# Altium integrated library Microchip PIC10.IntLib: 94 symbols (part 2 of 3)
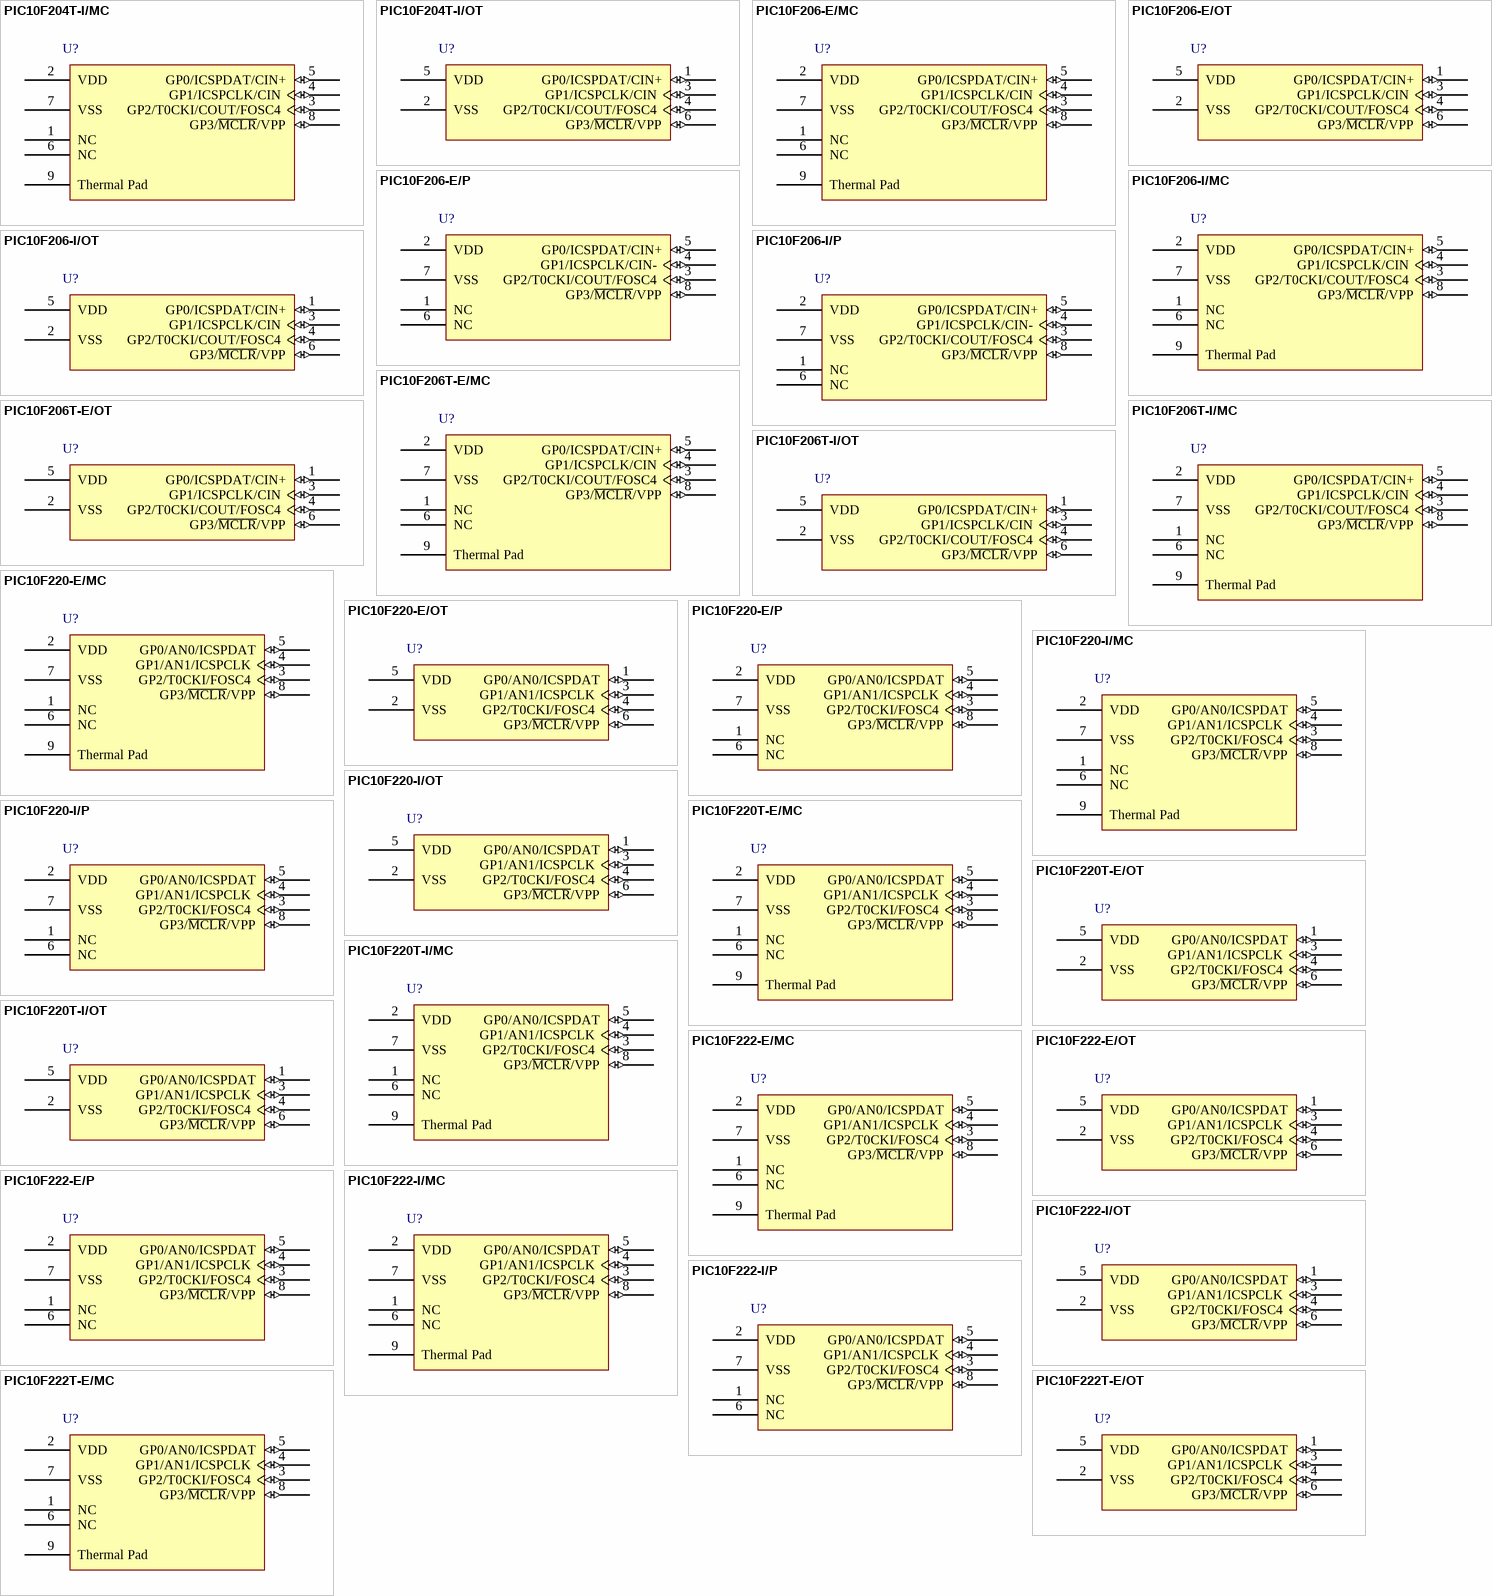
[diagram p3: symbols PIC10F204T-I/MC to PIC10F222T-E/OT]

## PIC10F220T-E/MC
designator U?
High-Performance Microcontroller with 8-bit A/D, 256 (x12-Bit words) Program Memory, 16 Bytes Data Memory, 8-Pin DFN, Extended Temperature, Tape and Reel; Manufacturer: Microchip; PartNumber: PIC10F220T-E/MC; DatasheetVersion: revE, Jun-2007; PackageVersion: C04-123C, 12/2012; PackageReference: DFN-MC8; PackageDescription: 8-Lead Plastic Dual Flat, 2 x 3 mm Body, 0.5 mm Pitch; ComponentLink1Description: Manufacturer URL; ComponentLink1URL: http://www.microchip.com/; ComponentLink2Description: Datasheet; ComponentLink2URL: http://ww1.microchip.com/downloads/en/DeviceDoc/41270E.pdf; ComponentLink3Description: Package Specification; ComponentLink3URL: http://www.microchip.com/stellent/groups/techpub_sg/documents/packagingspec/en012702.pdf
footprint MCHP-DFN-MC8_V (SON, 8-Leads, Body 3x2mm, Pitch 0.5mm, Thermal Pad 1.45x1.75mm)
pins: 1 NC, 2 VDD (power), 3 GP2/T0CKI/FOSC4 (io), 4 GP1/AN1/ICSPCLK (io), 5 GP0/AN0/ICSPDAT (io), 6 NC, 7 VSS (power), 8 GP3/~{MCLR}/VPP (io), 9 Thermal Pad

## PIC10F220T-E/OT
designator U?
High-Performance Microcontroller with 8-bit A/D, 256 (x12-Bit words) Program Memory, 16 Bytes Data Memory, 6-Pin SOT-23, Extended Temperature, Tape and Reel; Manufacturer: Microchip; PartNumber: PIC10F220T-E/OT; DatasheetVersion: revE, Jun-2007; PackageVersion: C04-028B, 12/2012; PackageReference: SOT-23-OT6; PackageDescription: 6-Lead Plastic Small Outline Transistor, 2.9 x 1.55 mm Body, 0.95 mm Pitch; ComponentLink1Description: Manufacturer URL; ComponentLink1URL: http://www.microchip.com/; ComponentLink2Description: Datasheet; ComponentLink2URL: http://ww1.microchip.com/downloads/en/DeviceDoc/41270E.pdf; ComponentLink3Description: Package Specification; ComponentLink3URL: http://www.microchip.com/stellent/groups/techpub_sg/documents/packagingspec/en012702.pdf
footprint MCHP-SOT-23-OT6_N (SOT23, 6-Leads, Body 2.9x1.55mm, Pitch 0.95mm, IPC Medium Density)
footprint MCHP-SOT-23-OT6_L (SOT23, 6-Leads, Body 2.9x1.55mm, Pitch 0.95mm, IPC High Density)
footprint MCHP-SOT-23-OT6_M (SOT23, 6-Leads, Body 2.9x1.55mm, Pitch 0.95mm, IPC Low Density)
pins: 1 GP0/AN0/ICSPDAT (io), 2 VSS (power), 3 GP1/AN1/ICSPCLK (io), 4 GP2/T0CKI/FOSC4 (io), 5 VDD (power), 6 GP3/~{MCLR}/VPP (io)

## PIC10F220T-I/MC
designator U?
High-Performance Microcontroller with 8-bit A/D, 256 (x12-Bit words) Program Memory, 16 Bytes Data Memory, 8-Pin DFN, Industrial Temperature, Tape and Reel; Manufacturer: Microchip; PartNumber: PIC10F220T-I/MC; DatasheetVersion: revE, Jun-2007; PackageVersion: C04-123C, 12/2012; PackageReference: DFN-MC8; PackageDescription: 8-Lead Plastic Dual Flat, 2 x 3 mm Body, 0.5 mm Pitch; ComponentLink1Description: Manufacturer URL; ComponentLink1URL: http://www.microchip.com/; ComponentLink2Description: Datasheet; ComponentLink2URL: http://ww1.microchip.com/downloads/en/DeviceDoc/41270E.pdf; ComponentLink3Description: Package Specification; ComponentLink3URL: http://www.microchip.com/stellent/groups/techpub_sg/documents/packagingspec/en012702.pdf
footprint MCHP-DFN-MC8_V (SON, 8-Leads, Body 3x2mm, Pitch 0.5mm, Thermal Pad 1.45x1.75mm)
pins: 1 NC, 2 VDD (power), 3 GP2/T0CKI/FOSC4 (io), 4 GP1/AN1/ICSPCLK (io), 5 GP0/AN0/ICSPDAT (io), 6 NC, 7 VSS (power), 8 GP3/~{MCLR}/VPP (io), 9 Thermal Pad

## PIC10F220T-I/OT
designator U?
High-Performance Microcontroller with 8-bit A/D, 256 (x12-Bit words) Program Memory, 16 Bytes Data Memory, 6-Pin SOT-23, Industrial Temperature, Tape and Reel; Manufacturer: Microchip; PartNumber: PIC10F220T-I/OT; DatasheetVersion: revE, Jun-2007; PackageVersion: C04-028B, 12/2012; PackageReference: SOT-23-OT6; PackageDescription: 6-Lead Plastic Small Outline Transistor, 2.9 x 1.55 mm Body, 0.95 mm Pitch; ComponentLink1Description: Manufacturer URL; ComponentLink1URL: http://www.microchip.com/; ComponentLink2Description: Datasheet; ComponentLink2URL: http://ww1.microchip.com/downloads/en/DeviceDoc/41270E.pdf; ComponentLink3Description: Package Specification; ComponentLink3URL: http://www.microchip.com/stellent/groups/techpub_sg/documents/packagingspec/en012702.pdf
footprint MCHP-SOT-23-OT6_N (SOT23, 6-Leads, Body 2.9x1.55mm, Pitch 0.95mm, IPC Medium Density)
footprint MCHP-SOT-23-OT6_L (SOT23, 6-Leads, Body 2.9x1.55mm, Pitch 0.95mm, IPC High Density)
footprint MCHP-SOT-23-OT6_M (SOT23, 6-Leads, Body 2.9x1.55mm, Pitch 0.95mm, IPC Low Density)
pins: 1 GP0/AN0/ICSPDAT (io), 2 VSS (power), 3 GP1/AN1/ICSPCLK (io), 4 GP2/T0CKI/FOSC4 (io), 5 VDD (power), 6 GP3/~{MCLR}/VPP (io)

## PIC10F222-E/MC
designator U?
High-Performance Microcontroller with 8-bit A/D, 512 (x12-Bit words) Program Memory, 23 Bytes Data Memory, 8-Pin DFN, Extended Temperature; Manufacturer: Microchip; PartNumber: PIC10F222-E/MC; DatasheetVersion: revE, Jun-2007; PackageVersion: C04-123C, 12/2012; PackageReference: DFN-MC8; PackageDescription: 8-Lead Plastic Dual Flat, 2 x 3 mm Body, 0.5 mm Pitch; ComponentLink1Description: Manufacturer URL; ComponentLink1URL: http://www.microchip.com/; ComponentLink2Description: Datasheet; ComponentLink2URL: http://ww1.microchip.com/downloads/en/DeviceDoc/41270E.pdf; ComponentLink3Description: Package Specification; ComponentLink3URL: http://www.microchip.com/stellent/groups/techpub_sg/documents/packagingspec/en012702.pdf
footprint MCHP-DFN-MC8_V (SON, 8-Leads, Body 3x2mm, Pitch 0.5mm, Thermal Pad 1.45x1.75mm)
pins: 1 NC, 2 VDD (power), 3 GP2/T0CKI/FOSC4 (io), 4 GP1/AN1/ICSPCLK (io), 5 GP0/AN0/ICSPDAT (io), 6 NC, 7 VSS (power), 8 GP3/~{MCLR}/VPP (io), 9 Thermal Pad

## PIC10F222-E/OT
designator U?
High-Performance Microcontroller with 8-bit A/D, 512 (x12-Bit words) Program Memory, 23 Bytes Data Memory, 6-Pin SOT-23, Extended Temperature; Manufacturer: Microchip; PartNumber: PIC10F222-E/OT; DatasheetVersion: revE, Jun-2007; PackageVersion: C04-028B, 12/2012; PackageReference: SOT-23-OT6; PackageDescription: 6-Lead Plastic Small Outline Transistor, 2.9 x 1.55 mm Body, 0.95 mm Pitch; ComponentLink1Description: Manufacturer URL; ComponentLink1URL: http://www.microchip.com/; ComponentLink2Description: Datasheet; ComponentLink2URL: http://ww1.microchip.com/downloads/en/DeviceDoc/41270E.pdf; ComponentLink3Description: Package Specification; ComponentLink3URL: http://www.microchip.com/stellent/groups/techpub_sg/documents/packagingspec/en012702.pdf
footprint MCHP-SOT-23-OT6_N (SOT23, 6-Leads, Body 2.9x1.55mm, Pitch 0.95mm, IPC Medium Density)
footprint MCHP-SOT-23-OT6_L (SOT23, 6-Leads, Body 2.9x1.55mm, Pitch 0.95mm, IPC High Density)
footprint MCHP-SOT-23-OT6_M (SOT23, 6-Leads, Body 2.9x1.55mm, Pitch 0.95mm, IPC Low Density)
pins: 1 GP0/AN0/ICSPDAT (io), 2 VSS (power), 3 GP1/AN1/ICSPCLK (io), 4 GP2/T0CKI/FOSC4 (io), 5 VDD (power), 6 GP3/~{MCLR}/VPP (io)

## PIC10F222-E/P
designator U?
High-Performance Microcontroller with 8-bit A/D, 512 (x12-Bit words) Program Memory, 23 Bytes Data Memory, 8-Pin PDIP, Extended Temperature; Manufacturer: Microchip; PartNumber: PIC10F222-E/P; DatasheetVersion: revE, Jun-2007; PackageVersion: revBB, Aug-2009; PackageReference: PDIP300-P8; PackageDescription: 8-Lead Plastic Dual In-Line (P) - 300 mil Body [PDIP]; Code_JEDEC: MS-001; ComponentLink1Description: Manufacturer URL; ComponentLink1URL: http://www.microchip.com/; ComponentLink2Description: Datasheet; ComponentLink2URL: http://ww1.microchip.com/downloads/en/DeviceDoc/41270E.pdf; ComponentLink3Description: Package Specification; ComponentLink3URL: http://www.microchip.com/stellent/groups/techpub_sg/documents/packagingspec/en012702.pdf
footprint PDIP300-P8 (DIP, 8-Leads, Row Spacing 7.62mm, Pitch 2.54mm, Body 9.5x6.6mm)
pins: 1 NC, 2 VDD (power), 3 GP2/T0CKI/FOSC4 (io), 4 GP1/AN1/ICSPCLK (io), 5 GP0/AN0/ICSPDAT (io), 6 NC, 7 VSS (power), 8 GP3/~{MCLR}/VPP (io)

## PIC10F222-I/MC
designator U?
High-Performance Microcontroller with 8-bit A/D, 512 (x12-Bit words) Program Memory, 23 Bytes Data Memory, 8-Pin DFN, Industrial Temperature; Manufacturer: Microchip; PartNumber: PIC10F222-I/MC; DatasheetVersion: revE, Jun-2007; PackageVersion: C04-123C, 12/2012; PackageReference: DFN-MC8; PackageDescription: 8-Lead Plastic Dual Flat, 2 x 3 mm Body, 0.5 mm Pitch; ComponentLink1Description: Manufacturer URL; ComponentLink1URL: http://www.microchip.com/; ComponentLink2Description: Datasheet; ComponentLink2URL: http://ww1.microchip.com/downloads/en/DeviceDoc/41270E.pdf; ComponentLink3Description: Package Specification; ComponentLink3URL: http://www.microchip.com/stellent/groups/techpub_sg/documents/packagingspec/en012702.pdf
footprint MCHP-DFN-MC8_V (SON, 8-Leads, Body 3x2mm, Pitch 0.5mm, Thermal Pad 1.45x1.75mm)
pins: 1 NC, 2 VDD (power), 3 GP2/T0CKI/FOSC4 (io), 4 GP1/AN1/ICSPCLK (io), 5 GP0/AN0/ICSPDAT (io), 6 NC, 7 VSS (power), 8 GP3/~{MCLR}/VPP (io), 9 Thermal Pad

## PIC10F222-I/OT
designator U?
High-Performance Microcontroller with 8-bit A/D, 512 (x12-Bit words) Program Memory, 23 Bytes Data Memory, 6-Pin SOT-23, Industrial Temperature; Manufacturer: Microchip; PartNumber: PIC10F222-I/OT; DatasheetVersion: revE, Jun-2007; PackageVersion: C04-028B, 12/2012; PackageReference: SOT-23-OT6; PackageDescription: 6-Lead Plastic Small Outline Transistor, 2.9 x 1.55 mm Body, 0.95 mm Pitch; ComponentLink1Description: Manufacturer URL; ComponentLink1URL: http://www.microchip.com/; ComponentLink2Description: Datasheet; ComponentLink2URL: http://ww1.microchip.com/downloads/en/DeviceDoc/41270E.pdf; ComponentLink3Description: Package Specification; ComponentLink3URL: http://www.microchip.com/stellent/groups/techpub_sg/documents/packagingspec/en012702.pdf
footprint MCHP-SOT-23-OT6_N (SOT23, 6-Leads, Body 2.9x1.55mm, Pitch 0.95mm, IPC Medium Density)
footprint MCHP-SOT-23-OT6_L (SOT23, 6-Leads, Body 2.9x1.55mm, Pitch 0.95mm, IPC High Density)
footprint MCHP-SOT-23-OT6_M (SOT23, 6-Leads, Body 2.9x1.55mm, Pitch 0.95mm, IPC Low Density)
pins: 1 GP0/AN0/ICSPDAT (io), 2 VSS (power), 3 GP1/AN1/ICSPCLK (io), 4 GP2/T0CKI/FOSC4 (io), 5 VDD (power), 6 GP3/~{MCLR}/VPP (io)

## PIC10F222-I/P
designator U?
High-Performance Microcontroller with 8-bit A/D, 512 (x12-Bit words) Program Memory, 23 Bytes Data Memory, 8-Pin PDIP, Industrial Temperature; Manufacturer: Microchip; PartNumber: PIC10F222-I/P; DatasheetVersion: revE, Jun-2007; PackageVersion: revBB, Aug-2009; PackageReference: PDIP300-P8; PackageDescription: 8-Lead Plastic Dual In-Line (P) - 300 mil Body [PDIP]; Code_JEDEC: MS-001; ComponentLink1Description: Manufacturer URL; ComponentLink1URL: http://www.microchip.com/; ComponentLink2Description: Datasheet; ComponentLink2URL: http://ww1.microchip.com/downloads/en/DeviceDoc/41270E.pdf; ComponentLink3Description: Package Specification; ComponentLink3URL: http://www.microchip.com/stellent/groups/techpub_sg/documents/packagingspec/en012702.pdf
footprint PDIP300-P8 (DIP, 8-Leads, Row Spacing 7.62mm, Pitch 2.54mm, Body 9.5x6.6mm)
pins: 1 NC, 2 VDD (power), 3 GP2/T0CKI/FOSC4 (io), 4 GP1/AN1/ICSPCLK (io), 5 GP0/AN0/ICSPDAT (io), 6 NC, 7 VSS (power), 8 GP3/~{MCLR}/VPP (io)

## PIC10F222T-E/MC
designator U?
High-Performance Microcontroller with 8-bit A/D, 512 (x12-Bit words) Program Memory, 23 Bytes Data Memory, 8-Pin DFN, Extended Temperature, Tape and Reel; Manufacturer: Microchip; PartNumber: PIC10F222T-E/MC; DatasheetVersion: revE, Jun-2007; PackageVersion: C04-123C, 12/2012; PackageReference: DFN-MC8; PackageDescription: 8-Lead Plastic Dual Flat, 2 x 3 mm Body, 0.5 mm Pitch; ComponentLink1Description: Manufacturer URL; ComponentLink1URL: http://www.microchip.com/; ComponentLink2Description: Datasheet; ComponentLink2URL: http://ww1.microchip.com/downloads/en/DeviceDoc/41270E.pdf; ComponentLink3Description: Package Specification; ComponentLink3URL: http://www.microchip.com/stellent/groups/techpub_sg/documents/packagingspec/en012702.pdf
footprint MCHP-DFN-MC8_V (SON, 8-Leads, Body 3x2mm, Pitch 0.5mm, Thermal Pad 1.45x1.75mm)
pins: 1 NC, 2 VDD (power), 3 GP2/T0CKI/FOSC4 (io), 4 GP1/AN1/ICSPCLK (io), 5 GP0/AN0/ICSPDAT (io), 6 NC, 7 VSS (power), 8 GP3/~{MCLR}/VPP (io), 9 Thermal Pad

## PIC10F222T-E/OT
designator U?
High-Performance Microcontroller with 8-bit A/D, 512 (x12-Bit words) Program Memory, 23 Bytes Data Memory, 6-Pin SOT-23, Extended Temperature, Tape and Reel; Manufacturer: Microchip; PartNumber: PIC10F222T-E/OT; DatasheetVersion: revE, Jun-2007; PackageVersion: C04-028B, 12/2012; PackageReference: SOT-23-OT6; PackageDescription: 6-Lead Plastic Small Outline Transistor, 2.9 x 1.55 mm Body, 0.95 mm Pitch; ComponentLink1Description: Manufacturer URL; ComponentLink1URL: http://www.microchip.com/; ComponentLink2Description: Datasheet; ComponentLink2URL: http://ww1.microchip.com/downloads/en/DeviceDoc/41270E.pdf; ComponentLink3Description: Package Specification; ComponentLink3URL: http://www.microchip.com/stellent/groups/techpub_sg/documents/packagingspec/en012702.pdf
footprint MCHP-SOT-23-OT6_N (SOT23, 6-Leads, Body 2.9x1.55mm, Pitch 0.95mm, IPC Medium Density)
footprint MCHP-SOT-23-OT6_L (SOT23, 6-Leads, Body 2.9x1.55mm, Pitch 0.95mm, IPC High Density)
footprint MCHP-SOT-23-OT6_M (SOT23, 6-Leads, Body 2.9x1.55mm, Pitch 0.95mm, IPC Low Density)
pins: 1 GP0/AN0/ICSPDAT (io), 2 VSS (power), 3 GP1/AN1/ICSPCLK (io), 4 GP2/T0CKI/FOSC4 (io), 5 VDD (power), 6 GP3/~{MCLR}/VPP (io)

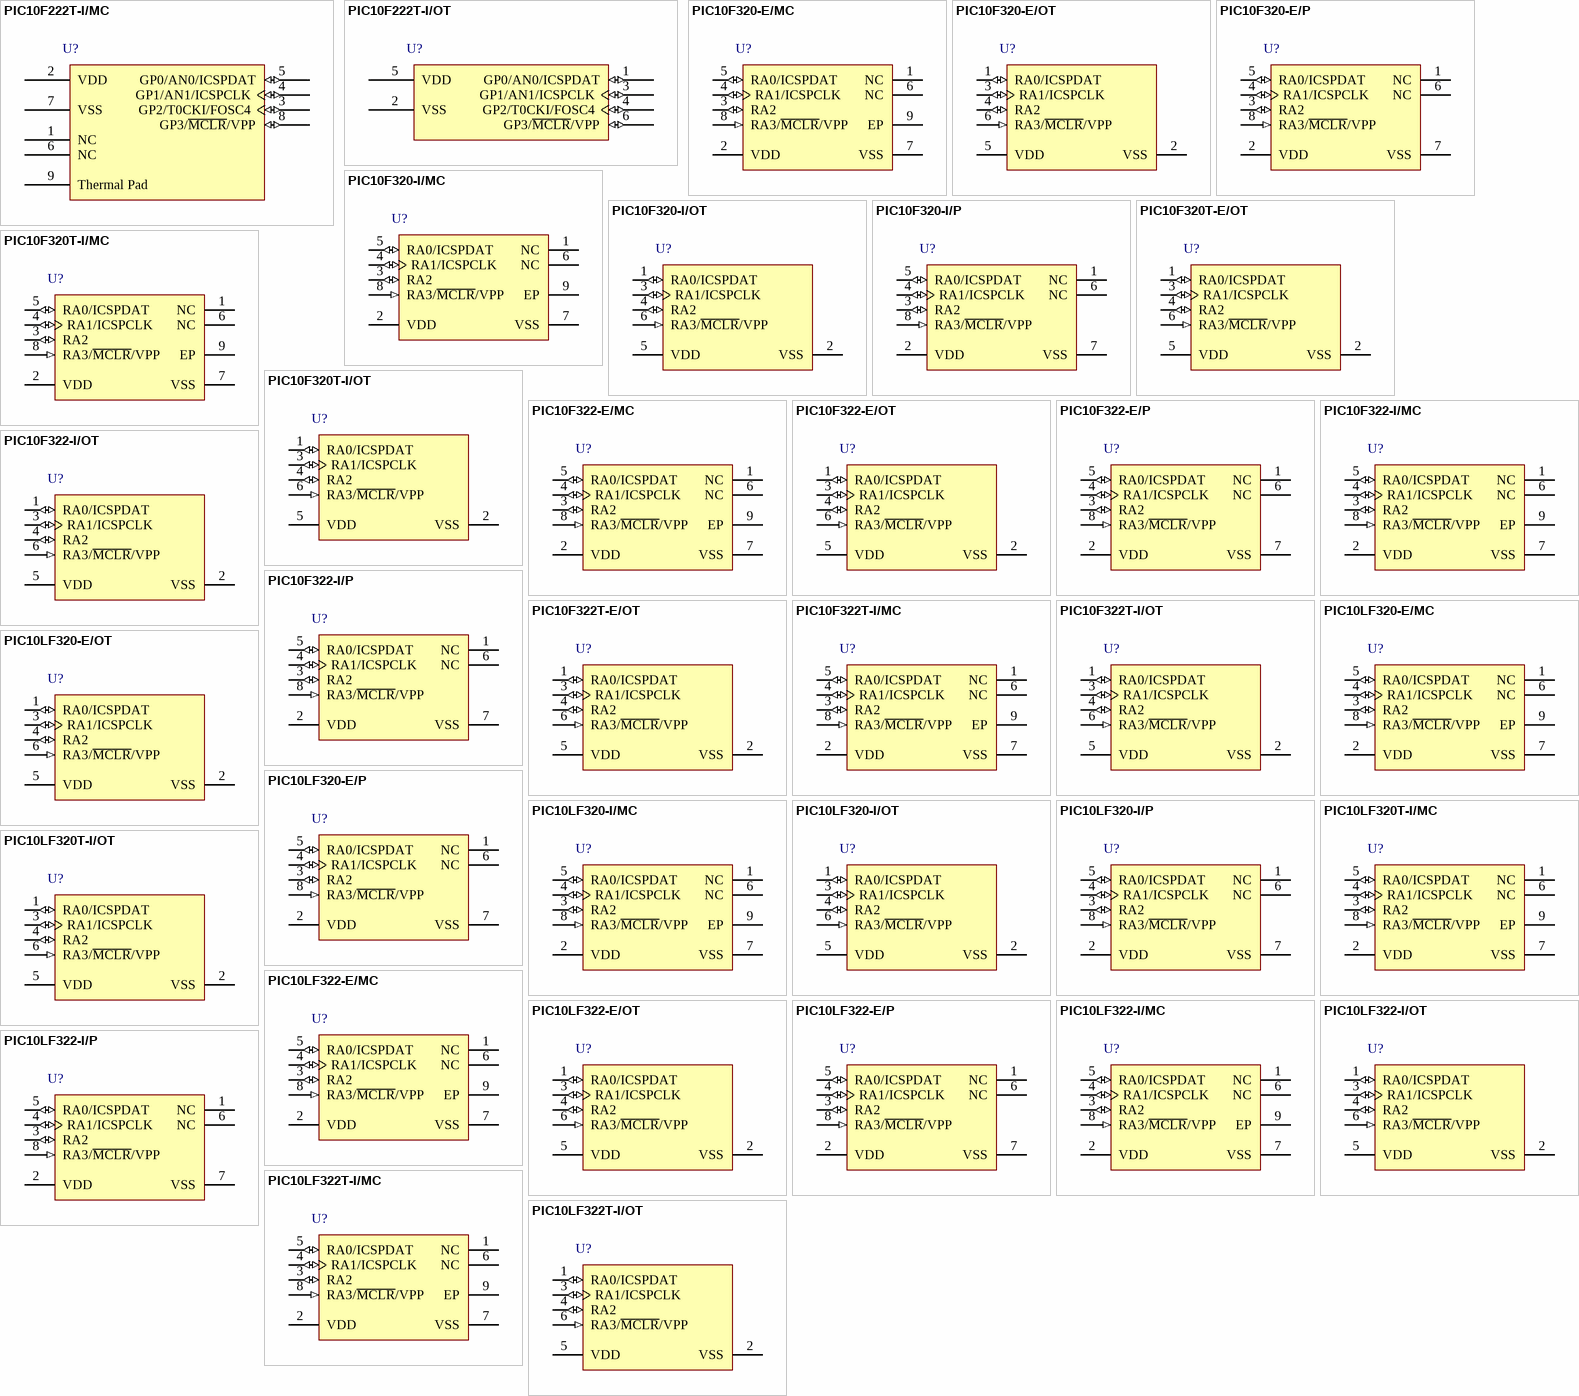
[diagram p2: symbols PIC10F222T-I/MC to PIC10LF322T-I/OT]

## PIC10F222T-I/MC
designator U?
High-Performance Microcontroller with 8-bit A/D, 512 (x12-Bit words) Program Memory, 23 Bytes Data Memory, 8-Pin DFN, Industrial Temperature, Tape and Reel; Manufacturer: Microchip; PartNumber: PIC10F222T-I/MC; DatasheetVersion: revE, Jun-2007; PackageVersion: C04-123C, 12/2012; PackageReference: DFN-MC8; PackageDescription: 8-Lead Plastic Dual Flat, 2 x 3 mm Body, 0.5 mm Pitch; ComponentLink1Description: Manufacturer URL; ComponentLink1URL: http://www.microchip.com/; ComponentLink2Description: Datasheet; ComponentLink2URL: http://ww1.microchip.com/downloads/en/DeviceDoc/41270E.pdf; ComponentLink3Description: Package Specification; ComponentLink3URL: http://www.microchip.com/stellent/groups/techpub_sg/documents/packagingspec/en012702.pdf
footprint MCHP-DFN-MC8_V (SON, 8-Leads, Body 3x2mm, Pitch 0.5mm, Thermal Pad 1.45x1.75mm)
pins: 1 NC, 2 VDD (power), 3 GP2/T0CKI/FOSC4 (io), 4 GP1/AN1/ICSPCLK (io), 5 GP0/AN0/ICSPDAT (io), 6 NC, 7 VSS (power), 8 GP3/~{MCLR}/VPP (io), 9 Thermal Pad

## PIC10F222T-I/OT
designator U?
High-Performance Microcontroller with 8-bit A/D, 512 (x12-Bit words) Program Memory, 23 Bytes Data Memory, 6-Pin SOT-23, Industrial Temperature, Tape and Reel; Manufacturer: Microchip; PartNumber: PIC10F222T-I/OT; DatasheetVersion: revE, Jun-2007; PackageVersion: C04-028B, 12/2012; PackageReference: SOT-23-OT6; PackageDescription: 6-Lead Plastic Small Outline Transistor, 2.9 x 1.55 mm Body, 0.95 mm Pitch; ComponentLink1Description: Manufacturer URL; ComponentLink1URL: http://www.microchip.com/; ComponentLink2Description: Datasheet; ComponentLink2URL: http://ww1.microchip.com/downloads/en/DeviceDoc/41270E.pdf; ComponentLink3Description: Package Specification; ComponentLink3URL: http://www.microchip.com/stellent/groups/techpub_sg/documents/packagingspec/en012702.pdf
footprint MCHP-SOT-23-OT6_N (SOT23, 6-Leads, Body 2.9x1.55mm, Pitch 0.95mm, IPC Medium Density)
footprint MCHP-SOT-23-OT6_L (SOT23, 6-Leads, Body 2.9x1.55mm, Pitch 0.95mm, IPC High Density)
footprint MCHP-SOT-23-OT6_M (SOT23, 6-Leads, Body 2.9x1.55mm, Pitch 0.95mm, IPC Low Density)
pins: 1 GP0/AN0/ICSPDAT (io), 2 VSS (power), 3 GP1/AN1/ICSPCLK (io), 4 GP2/T0CKI/FOSC4 (io), 5 VDD (power), 6 GP3/~{MCLR}/VPP (io)

## PIC10F320-E/MC
designator U?
High-Performance, Flash Microcontroller, 16 MHz, 3 I/O, -40 to 125 degC, 8-pin DFN (MC8), Tube; Manufacturer: Microchip; PartNumber: PIC10F320-E/MC; # of A/D Channels: 3; Digital Communication: 0 -UART; Internal Oscillator: 16 MHz, 31 kHz; Max. CPU Speed MHz: 16; Operation Voltage Range: 2.3V - 5.5V; Program Memory KBytes: 0.448; Program Memory KWords: 0.25; RAM: 64; Timers: 2 - 8-bit; DatasheetVersion: Rev. A; PackageVersion: C04-123C, 12/2012; PackageReference: DFN-MC8; PackageDescription: 8-Lead Plastic Dual Flat, 2 x 3 mm Body, 0.5 mm Pitch; Supplier 1: Digi-Key; Supplier Part Number 1: PIC10F320-E/MC-ND; Supplier 2: Mouser; Supplier Part Number 2: 579-PIC10F320-E/MC; I/O Pins: 3; Memory Type: Flash; Packing: TUBE; RoHS: TRUE; Mounting Technology: Surface Mount; ComponentLink1Description: Manufacturer URL; ComponentLink1URL: http://www.microchip.com/; ComponentLink2Description: Datasheet; ComponentLink2URL: http://ww1.microchip.com/downloads/en/DeviceDoc/41585A.pdf; ComponentLink3Description: Package Specification; ComponentLink3URL: http://www.microchip.com/stellent/groups/techpub_sg/documents/packagingspec/en012702.pdf; ComponentLink4Description: URL Link1; ComponentLink4URL: Product URL:http://www.microchip.com/datasheet/PIC10F320
footprint MCHP-DFN-MC8_V (SON, 8-Leads, Body 3x2mm, Pitch 0.5mm, Thermal Pad 1.45x1.75mm)
pins: 1 NC, 2 VDD (power) "Positive supply.", 3 RA2 (io), 4 RA1/ICSPCLK (io), 5 RA0/ICSPDAT (io), 6 NC, 7 VSS (power) "Ground reference.", 8 RA3/~{MCLR}/VPP (in), 9 EP

## PIC10F320-E/OT
designator U?
High-Performance, Flash Microcontroller, 16 MHz, 3 I/O, -40 to 125 degC, 6-pin SOT-23 (OT6), Bag; Manufacturer: Microchip; PartNumber: PIC10F320-E/OT; # of A/D Channels: 3; Digital Communication: 0 -UART; Internal Oscillator: 16 MHz, 31 kHz; Max. CPU Speed MHz: 16; Operation Voltage Range: 2.3V - 5.5V; Program Memory KBytes: 0.448; Program Memory KWords: 0.25; RAM: 64; Timers: 2 - 8-bit; DatasheetVersion: Rev. A; PackageVersion: C04-028B, 12/2012; PackageReference: SOT-23-OT6; PackageDescription: 6-Lead Plastic Small Outline Transistor, 2.9 x 1.55 mm Body, 0.95 mm Pitch; Supplier 1: Digi-Key; Supplier Part Number 1: PIC10F320-E/OT-ND; Supplier 2: Newark; Supplier Part Number 2: 41T4329; Supplier 3: Mouser; Supplier Part Number 3: 579-PIC10F320-E/OT; I/O Pins: 3; Memory Type: Flash; Packing: BAG; RoHS: TRUE; Mounting Technology: Surface Mount; ComponentLink1Description: Manufacturer URL; ComponentLink1URL: http://www.microchip.com/; ComponentLink2Description: Datasheet; ComponentLink2URL: http://ww1.microchip.com/downloads/en/DeviceDoc/41585A.pdf; ComponentLink3Description: Package Specification; ComponentLink3URL: http://www.microchip.com/stellent/groups/techpub_sg/documents/packagingspec/en012702.pdf; ComponentLink4Description: URL Link1; ComponentLink4URL: Product URL:http://www.microchip.com/datasheet/PIC10F320
footprint MCHP-SOT-23-OT6_N (SOT23, 6-Leads, Body 2.9x1.55mm, Pitch 0.95mm, IPC Medium Density)
footprint MCHP-SOT-23-OT6_L (SOT23, 6-Leads, Body 2.9x1.55mm, Pitch 0.95mm, IPC High Density)
footprint MCHP-SOT-23-OT6_M (SOT23, 6-Leads, Body 2.9x1.55mm, Pitch 0.95mm, IPC Low Density)
pins: 1 RA0/ICSPDAT (io), 2 VSS (power) "Ground reference.", 3 RA1/ICSPCLK (io), 4 RA2 (io), 5 VDD (power) "Positive supply.", 6 RA3/~{MCLR}/VPP (in)

## PIC10F320-E/P
designator U?
High-Performance, Flash Microcontroller, 16 MHz, 3 I/O, -40 to 125 degC, 8-pin PDIP (P8), Tube; Manufacturer: Microchip; PartNumber: PIC10F320-E/P; # of A/D Channels: 3; Digital Communication: 0 -UART; Internal Oscillator: 16 MHz, 31 kHz; Max. CPU Speed MHz: 16; Operation Voltage Range: 2.3V - 5.5V; Program Memory KBytes: 0.448; Program Memory KWords: 0.25; RAM: 64; Timers: 2 - 8-bit; DatasheetVersion: Rev. A; PackageVersion: C04-018B, 12/2012; PackageReference: PDIP-P8; PackageDescription: 8-Lead Plastic Dual In-Line, Row Spacing 7.62 mm, 9.5 x 6.6 mm Body, 2.54 mm Pitch; Supplier 1: Digi-Key; Supplier Part Number 1: PIC10F320-E/P-ND; Supplier 2: Newark; Supplier Part Number 2: 41T4330; Supplier 3: Mouser; Supplier Part Number 3: 579-PIC10F320-E/P; I/O Pins: 3; Memory Type: Flash; Packing: TUBE; RoHS: TRUE; Mounting Technology: Through Hole; ComponentLink1Description: Manufacturer URL; ComponentLink1URL: http://www.microchip.com/; ComponentLink2Description: Datasheet; ComponentLink2URL: http://ww1.microchip.com/downloads/en/DeviceDoc/41585A.pdf; ComponentLink3Description: Package Specification; ComponentLink3URL: http://www.microchip.com/stellent/groups/techpub_sg/documents/packagingspec/en012702.pdf; ComponentLink4Description: URL Link1; ComponentLink4URL: Product URL:http://www.microchip.com/datasheet/PIC10F320
footprint MCHP-PDIP-P8 (PDIP, 8-Leads, Body 9.5x6.604mm, Pitch 2.54mm)
pins: 1 NC, 2 VDD (power) "Positive supply.", 3 RA2 (io), 4 RA1/ICSPCLK (io), 5 RA0/ICSPDAT (io), 6 NC, 7 VSS (power) "Ground reference.", 8 RA3/~{MCLR}/VPP (in)

## PIC10F320-I/MC
designator U?
High-Performance, Flash Microcontroller, 16 MHz, 3 I/O, -40 to 85 degC, 8-pin DFN (MC8), Tube; Manufacturer: Microchip; PartNumber: PIC10F320-I/MC; # of A/D Channels: 3; Digital Communication: 0 -UART; Internal Oscillator: 16 MHz, 31 kHz; Max. CPU Speed MHz: 16; Operation Voltage Range: 2.3V - 5.5V; Program Memory KBytes: 0.448; Program Memory KWords: 0.25; RAM: 64; Timers: 2 - 8-bit; DatasheetVersion: Rev. A; PackageVersion: C04-123C, 12/2012; PackageReference: DFN-MC8; PackageDescription: 8-Lead Plastic Dual Flat, 2 x 3 mm Body, 0.5 mm Pitch; Supplier 1: Digi-Key; Supplier Part Number 1: PIC10F320-I/MC-ND; Supplier 2: Farnell; Supplier Part Number 2: 2074911; Supplier 3: Newark; Supplier Part Number 3: 41T4331; Supplier 4: Mouser; Supplier Part Number 4: 579-PIC10F320-I/MC; I/O Pins: 3; Memory Type: Flash; Packing: TUBE; RoHS: TRUE; Mounting Technology: Surface Mount; ComponentLink1Description: Manufacturer URL; ComponentLink1URL: http://www.microchip.com/; ComponentLink2Description: Datasheet; ComponentLink2URL: http://ww1.microchip.com/downloads/en/DeviceDoc/41585A.pdf; ComponentLink3Description: Package Specification; ComponentLink3URL: http://www.microchip.com/stellent/groups/techpub_sg/documents/packagingspec/en012702.pdf; ComponentLink4Description: URL Link1; ComponentLink4URL: Product URL:http://www.microchip.com/datasheet/PIC10F320
footprint MCHP-DFN-MC8_V (SON, 8-Leads, Body 3x2mm, Pitch 0.5mm, Thermal Pad 1.45x1.75mm)
pins: 1 NC, 2 VDD (power) "Positive supply.", 3 RA2 (io), 4 RA1/ICSPCLK (io), 5 RA0/ICSPDAT (io), 6 NC, 7 VSS (power) "Ground reference.", 8 RA3/~{MCLR}/VPP (in), 9 EP

## PIC10F320-I/OT
designator U?
High-Performance, Flash Microcontroller, 16 MHz, 3 I/O, -40 to 85 degC, 6-pin SOT-23 (OT6), Bag; Manufacturer: Microchip; PartNumber: PIC10F320-I/OT; # of A/D Channels: 3; Digital Communication: 0 -UART; Internal Oscillator: 16 MHz, 31 kHz; Max. CPU Speed MHz: 16; Operation Voltage Range: 2.3V - 5.5V; Program Memory KBytes: 0.448; Program Memory KWords: 0.25; RAM: 64; Timers: 2 - 8-bit; DatasheetVersion: Rev. A; PackageVersion: C04-028B, 12/2012; PackageReference: SOT-23-OT6; PackageDescription: 6-Lead Plastic Small Outline Transistor, 2.9 x 1.55 mm Body, 0.95 mm Pitch; Supplier 1: Digi-Key; Supplier Part Number 1: PIC10F320-I/OT-ND; Supplier 2: Farnell; Supplier Part Number 2: 2074912; Supplier 3: Newark; Supplier Part Number 3: 41T4332; Supplier 4: Mouser; Supplier Part Number 4: 579-PIC10F320-I/OT; I/O Pins: 3; Memory Type: Flash; Packing: BAG; RoHS: TRUE; Mounting Technology: Surface Mount; ComponentLink1Description: Manufacturer URL; ComponentLink1URL: http://www.microchip.com/; ComponentLink2Description: Datasheet; ComponentLink2URL: http://ww1.microchip.com/downloads/en/DeviceDoc/41585A.pdf; ComponentLink3Description: Package Specification; ComponentLink3URL: http://www.microchip.com/stellent/groups/techpub_sg/documents/packagingspec/en012702.pdf; ComponentLink4Description: URL Link1; ComponentLink4URL: Product URL:http://www.microchip.com/datasheet/PIC10F320
footprint MCHP-SOT-23-OT6_N (SOT23, 6-Leads, Body 2.9x1.55mm, Pitch 0.95mm, IPC Medium Density)
footprint MCHP-SOT-23-OT6_L (SOT23, 6-Leads, Body 2.9x1.55mm, Pitch 0.95mm, IPC High Density)
footprint MCHP-SOT-23-OT6_M (SOT23, 6-Leads, Body 2.9x1.55mm, Pitch 0.95mm, IPC Low Density)
pins: 1 RA0/ICSPDAT (io), 2 VSS (power) "Ground reference.", 3 RA1/ICSPCLK (io), 4 RA2 (io), 5 VDD (power) "Positive supply.", 6 RA3/~{MCLR}/VPP (in)

## PIC10F320-I/P
designator U?
High-Performance, Flash Microcontroller, 16 MHz, 3 I/O, -40 to 85 degC, 8-pin PDIP (P8), Tube; Manufacturer: Microchip; PartNumber: PIC10F320-I/P; # of A/D Channels: 3; Digital Communication: 0 -UART; Internal Oscillator: 16 MHz, 31 kHz; Max. CPU Speed MHz: 16; Operation Voltage Range: 2.3V - 5.5V; Program Memory KBytes: 0.448; Program Memory KWords: 0.25; RAM: 64; Timers: 2 - 8-bit; DatasheetVersion: Rev. A; PackageVersion: C04-018B, 12/2012; PackageReference: PDIP-P8; PackageDescription: 8-Lead Plastic Dual In-Line, Row Spacing 7.62 mm, 9.5 x 6.6 mm Body, 2.54 mm Pitch; Supplier 1: Digi-Key; Supplier Part Number 1: PIC10F320-I/P-ND; Supplier 2: Farnell; Supplier Part Number 2: 2074913; Supplier 3: Newark; Supplier Part Number 3: 41T4333; Supplier 4: Mouser; Supplier Part Number 4: 579-PIC10F320-I/P; I/O Pins: 3; Memory Type: Flash; Packing: TUBE; RoHS: TRUE; Mounting Technology: Through Hole; ComponentLink1Description: Manufacturer URL; ComponentLink1URL: http://www.microchip.com/; ComponentLink2Description: Datasheet; ComponentLink2URL: http://ww1.microchip.com/downloads/en/DeviceDoc/41585A.pdf; ComponentLink3Description: Package Specification; ComponentLink3URL: http://www.microchip.com/stellent/groups/techpub_sg/documents/packagingspec/en012702.pdf; ComponentLink4Description: URL Link1; ComponentLink4URL: Product URL:http://www.microchip.com/datasheet/PIC10F320
footprint MCHP-PDIP-P8 (PDIP, 8-Leads, Body 9.5x6.604mm, Pitch 2.54mm)
pins: 1 NC, 2 VDD (power) "Positive supply.", 3 RA2 (io), 4 RA1/ICSPCLK (io), 5 RA0/ICSPDAT (io), 6 NC, 7 VSS (power) "Ground reference.", 8 RA3/~{MCLR}/VPP (in)

## PIC10F320T-E/OT
designator U?
High-Performance, Flash Microcontroller, 16 MHz, 3 I/O, -40 to 125 degC, 6-pin SOT-23 (OT6), Tape and Reel; Manufacturer: Microchip; PartNumber: PIC10F320T-E/OT; # of A/D Channels: 3; Digital Communication: 0 -UART; Internal Oscillator: 16 MHz, 31 kHz; Max. CPU Speed MHz: 16; Operation Voltage Range: 2.3V - 5.5V; Packing: T/R; Program Memory KBytes: 0.448; Program Memory KWords: 0.25; RAM: 64; Timers: 2 - 8-bit; DatasheetVersion: Rev. A; PackageVersion: C04-028B, 12/2012; PackageReference: SOT-23-OT6; PackageDescription: 6-Lead Plastic Small Outline Transistor, 2.9 x 1.55 mm Body, 0.95 mm Pitch; I/O Pins: 3; Memory Type: Flash; RoHS: TRUE; Mounting Technology: Surface Mount; ComponentLink1Description: Manufacturer URL; ComponentLink1URL: http://www.microchip.com/; ComponentLink2Description: Datasheet; ComponentLink2URL: http://ww1.microchip.com/downloads/en/DeviceDoc/41585A.pdf; ComponentLink3Description: Package Specification; ComponentLink3URL: http://www.microchip.com/stellent/groups/techpub_sg/documents/packagingspec/en012702.pdf; ComponentLink4Description: URL Link1; ComponentLink4URL: Product URL:http://www.microchip.com/datasheet/PIC10F320
footprint MCHP-SOT-23-OT6_N (SOT23, 6-Leads, Body 2.9x1.55mm, Pitch 0.95mm, IPC Medium Density)
footprint MCHP-SOT-23-OT6_L (SOT23, 6-Leads, Body 2.9x1.55mm, Pitch 0.95mm, IPC High Density)
footprint MCHP-SOT-23-OT6_M (SOT23, 6-Leads, Body 2.9x1.55mm, Pitch 0.95mm, IPC Low Density)
pins: 1 RA0/ICSPDAT (io), 2 VSS (power) "Ground reference.", 3 RA1/ICSPCLK (io), 4 RA2 (io), 5 VDD (power) "Positive supply.", 6 RA3/~{MCLR}/VPP (in)

## PIC10F320T-I/MC
designator U?
High-Performance, Flash Microcontroller, 16 MHz, 3 I/O, -40 to 85 degC, 8-pin DFN (MC8), Tape and Reel; Manufacturer: Microchip; PartNumber: PIC10F320T-I/MC; # of A/D Channels: 3; Digital Communication: 0 -UART; Internal Oscillator: 16 MHz, 31 kHz; Max. CPU Speed MHz: 16; Operation Voltage Range: 2.3V - 5.5V; Packing: T/R; Program Memory KBytes: 0.448; Program Memory KWords: 0.25; RAM: 64; Timers: 2 - 8-bit; DatasheetVersion: Rev. A; PackageVersion: C04-123C, 12/2012; PackageReference: DFN-MC8; PackageDescription: 8-Lead Plastic Dual Flat, 2 x 3 mm Body, 0.5 mm Pitch; Supplier 1: Digi-Key; Supplier Part Number 1: PIC10F320T-I/MC-ND; Supplier 2: Farnell; Supplier Part Number 2: 2074914; Supplier 3: Farnell; Supplier Part Number 3: 2074914RL; Supplier 4: Newark; Supplier Part Number 4: 65T4794; Supplier 5: Mouser; Supplier Part Number 5: 579-PIC10F320T-I/MC; I/O Pins: 3; Memory Type: Flash; RoHS: TRUE; Mounting Technology: Surface Mount; ComponentLink1Description: Manufacturer URL; ComponentLink1URL: http://www.microchip.com/; ComponentLink2Description: Datasheet; ComponentLink2URL: http://ww1.microchip.com/downloads/en/DeviceDoc/41585A.pdf; ComponentLink3Description: Package Specification; ComponentLink3URL: http://www.microchip.com/stellent/groups/techpub_sg/documents/packagingspec/en012702.pdf; ComponentLink4Description: URL Link1; ComponentLink4URL: Product URL:http://www.microchip.com/datasheet/PIC10F320
footprint MCHP-DFN-MC8_V (SON, 8-Leads, Body 3x2mm, Pitch 0.5mm, Thermal Pad 1.45x1.75mm)
pins: 1 NC, 2 VDD (power) "Positive supply.", 3 RA2 (io), 4 RA1/ICSPCLK (io), 5 RA0/ICSPDAT (io), 6 NC, 7 VSS (power) "Ground reference.", 8 RA3/~{MCLR}/VPP (in), 9 EP

## PIC10F320T-I/OT
designator U?
High-Performance, Flash Microcontroller, 16 MHz, 3 I/O, -40 to 85 degC, 6-pin SOT-23 (OT6), Tape and Reel; Manufacturer: Microchip; PartNumber: PIC10F320T-I/OT; # of A/D Channels: 3; Digital Communication: 0 -UART; Internal Oscillator: 16 MHz, 31 kHz; Max. CPU Speed MHz: 16; Operation Voltage Range: 2.3V - 5.5V; Packing: T/R; Program Memory KBytes: 0.448; Program Memory KWords: 0.25; RAM: 64; Timers: 2 - 8-bit; DatasheetVersion: Rev. A; PackageVersion: C04-028B, 12/2012; PackageReference: SOT-23-OT6; PackageDescription: 6-Lead Plastic Small Outline Transistor, 2.9 x 1.55 mm Body, 0.95 mm Pitch; Supplier 1: Digi-Key; Supplier Part Number 1: PIC10F320T-I/OTTR-ND; Supplier 2: Digi-Key; Supplier Part Number 2: PIC10F320T-I/OTCT-ND; Supplier 3: Digi-Key; Supplier Part Number 3: PIC10F320T-I/OTDKR-ND; Supplier 4: Newark; Supplier Part Number 4: 65T4795; Supplier 5: Mouser; Supplier Part Number 5: 579-PIC10F320T-I/OT; I/O Pins: 3; Memory Type: Flash; RoHS: TRUE; Mounting Technology: Surface Mount; ComponentLink1Description: Manufacturer URL; ComponentLink1URL: http://www.microchip.com/; ComponentLink2Description: Datasheet; ComponentLink2URL: http://ww1.microchip.com/downloads/en/DeviceDoc/41585A.pdf; ComponentLink3Description: Package Specification; ComponentLink3URL: http://www.microchip.com/stellent/groups/techpub_sg/documents/packagingspec/en012702.pdf; ComponentLink4Description: URL Link1; ComponentLink4URL: Product URL:http://www.microchip.com/datasheet/PIC10F320
footprint MCHP-SOT-23-OT6_N (SOT23, 6-Leads, Body 2.9x1.55mm, Pitch 0.95mm, IPC Medium Density)
footprint MCHP-SOT-23-OT6_L (SOT23, 6-Leads, Body 2.9x1.55mm, Pitch 0.95mm, IPC High Density)
footprint MCHP-SOT-23-OT6_M (SOT23, 6-Leads, Body 2.9x1.55mm, Pitch 0.95mm, IPC Low Density)
pins: 1 RA0/ICSPDAT (io), 2 VSS (power) "Ground reference.", 3 RA1/ICSPCLK (io), 4 RA2 (io), 5 VDD (power) "Positive supply.", 6 RA3/~{MCLR}/VPP (in)

## PIC10F322-E/MC
designator U?
High-Performance, Flash Microcontroller, 16 MHz, 3 I/O, -40 to 125 degC, 8-pin DFN (MC8), Tube; Manufacturer: Microchip; PartNumber: PIC10F322-E/MC; # of A/D Channels: 3; Digital Communication: 0 -UART; Internal Oscillator: 16 MHz, 31 kHz; Max. CPU Speed MHz: 16; Operation Voltage Range: 2.3V - 5.5V; Program Memory KBytes: 0.875; Program Memory KWords: 0.5; RAM: 64; Timers: 2 - 8-bit; DatasheetVersion: Rev. A; PackageVersion: C04-123C, 12/2012; PackageReference: DFN-MC8; PackageDescription: 8-Lead Plastic Dual Flat, 2 x 3 mm Body, 0.5 mm Pitch; Supplier 1: Digi-Key; Supplier Part Number 1: PIC10F322-E/MC-ND; Supplier 2: Mouser; Supplier Part Number 2: 579-PIC10F322-E/MC; I/O Pins: 3; Memory Type: Flash; Packing: TUBE; RoHS: TRUE; Mounting Technology: Surface Mount; ComponentLink1Description: Manufacturer URL; ComponentLink1URL: http://www.microchip.com/; ComponentLink2Description: Datasheet; ComponentLink2URL: http://ww1.microchip.com/downloads/en/DeviceDoc/41585A.pdf; ComponentLink3Description: Package Specification; ComponentLink3URL: http://www.microchip.com/stellent/groups/techpub_sg/documents/packagingspec/en012702.pdf; ComponentLink4Description: URL Link1; ComponentLink4URL: Product URL:http://www.microchip.com/datasheet/PIC10F322
footprint MCHP-DFN-MC8_V (SON, 8-Leads, Body 3x2mm, Pitch 0.5mm, Thermal Pad 1.45x1.75mm)
pins: 1 NC, 2 VDD (power) "Positive supply.", 3 RA2 (io), 4 RA1/ICSPCLK (io), 5 RA0/ICSPDAT (io), 6 NC, 7 VSS (power) "Ground reference.", 8 RA3/~{MCLR}/VPP (in), 9 EP

## PIC10F322-E/OT
designator U?
High-Performance, Flash Microcontroller, 16 MHz, 3 I/O, -40 to 125 degC, 6-pin SOT-23 (OT6), Bag; Manufacturer: Microchip; PartNumber: PIC10F322-E/OT; # of A/D Channels: 3; Digital Communication: 0 -UART; Internal Oscillator: 16 MHz, 31 kHz; Max. CPU Speed MHz: 16; Operation Voltage Range: 2.3V - 5.5V; Program Memory KBytes: 0.875; Program Memory KWords: 0.5; RAM: 64; Timers: 2 - 8-bit; DatasheetVersion: Rev. A; PackageVersion: C04-028B, 12/2012; PackageReference: SOT-23-OT6; PackageDescription: 6-Lead Plastic Small Outline Transistor, 2.9 x 1.55 mm Body, 0.95 mm Pitch; Supplier 1: Digi-Key; Supplier Part Number 1: PIC10F322-E/OT-ND; Supplier 2: Newark; Supplier Part Number 2: 41T4337; Supplier 3: Mouser; Supplier Part Number 3: 579-PIC10F322-E/OT; I/O Pins: 3; Memory Type: Flash; Packing: BAG; RoHS: TRUE; Mounting Technology: Surface Mount; ComponentLink1Description: Manufacturer URL; ComponentLink1URL: http://www.microchip.com/; ComponentLink2Description: Datasheet; ComponentLink2URL: http://ww1.microchip.com/downloads/en/DeviceDoc/41585A.pdf; ComponentLink3Description: Package Specification; ComponentLink3URL: http://www.microchip.com/stellent/groups/techpub_sg/documents/packagingspec/en012702.pdf; ComponentLink4Description: URL Link1; ComponentLink4URL: Product URL:http://www.microchip.com/datasheet/PIC10F322
footprint MCHP-SOT-23-OT6_N (SOT23, 6-Leads, Body 2.9x1.55mm, Pitch 0.95mm, IPC Medium Density)
footprint MCHP-SOT-23-OT6_L (SOT23, 6-Leads, Body 2.9x1.55mm, Pitch 0.95mm, IPC High Density)
footprint MCHP-SOT-23-OT6_M (SOT23, 6-Leads, Body 2.9x1.55mm, Pitch 0.95mm, IPC Low Density)
pins: 1 RA0/ICSPDAT (io), 2 VSS (power) "Ground reference.", 3 RA1/ICSPCLK (io), 4 RA2 (io), 5 VDD (power) "Positive supply.", 6 RA3/~{MCLR}/VPP (in)

## PIC10F322-E/P
designator U?
High-Performance, Flash Microcontroller, 16 MHz, 3 I/O, -40 to 125 degC, 8-pin PDIP (P8), Tube; Manufacturer: Microchip; PartNumber: PIC10F322-E/P; # of A/D Channels: 3; Digital Communication: 0 -UART; Internal Oscillator: 16 MHz, 31 kHz; Max. CPU Speed MHz: 16; Operation Voltage Range: 2.3V - 5.5V; Program Memory KBytes: 0.875; Program Memory KWords: 0.5; RAM: 64; Timers: 2 - 8-bit; DatasheetVersion: Rev. A; PackageVersion: C04-018B, 12/2012; PackageReference: PDIP-P8; PackageDescription: 8-Lead Plastic Dual In-Line, Row Spacing 7.62 mm, 9.5 x 6.6 mm Body, 2.54 mm Pitch; Supplier 1: Digi-Key; Supplier Part Number 1: PIC10F322-E/P-ND; Supplier 2: Mouser; Supplier Part Number 2: 579-PIC10F322-E/P; I/O Pins: 3; Memory Type: Flash; Packing: TUBE; RoHS: TRUE; Mounting Technology: Through Hole; ComponentLink1Description: Manufacturer URL; ComponentLink1URL: http://www.microchip.com/; ComponentLink2Description: Datasheet; ComponentLink2URL: http://ww1.microchip.com/downloads/en/DeviceDoc/41585A.pdf; ComponentLink3Description: Package Specification; ComponentLink3URL: http://www.microchip.com/stellent/groups/techpub_sg/documents/packagingspec/en012702.pdf; ComponentLink4Description: URL Link1; ComponentLink4URL: Product URL:http://www.microchip.com/datasheet/PIC10F322
footprint MCHP-PDIP-P8 (PDIP, 8-Leads, Body 9.5x6.604mm, Pitch 2.54mm)
pins: 1 NC, 2 VDD (power) "Positive supply.", 3 RA2 (io), 4 RA1/ICSPCLK (io), 5 RA0/ICSPDAT (io), 6 NC, 7 VSS (power) "Ground reference.", 8 RA3/~{MCLR}/VPP (in)

## PIC10F322-I/MC
designator U?
High-Performance, Flash Microcontroller, 16 MHz, 3 I/O, -40 to 85 degC, 8-pin DFN (MC8), Tube; Manufacturer: Microchip; PartNumber: PIC10F322-I/MC; # of A/D Channels: 3; Digital Communication: 0 -UART; Internal Oscillator: 16 MHz, 31 kHz; Max. CPU Speed MHz: 16; Operation Voltage Range: 2.3V - 5.5V; Program Memory KBytes: 0.875; Program Memory KWords: 0.5; RAM: 64; Timers: 2 - 8-bit; DatasheetVersion: Rev. A; PackageVersion: C04-123C, 12/2012; PackageReference: DFN-MC8; PackageDescription: 8-Lead Plastic Dual Flat, 2 x 3 mm Body, 0.5 mm Pitch; Supplier 1: Digi-Key; Supplier Part Number 1: PIC10F322-I/MC-ND; Supplier 2: Farnell; Supplier Part Number 2: 2074917; Supplier 3: Newark; Supplier Part Number 3: 41T4339; Supplier 4: Mouser; Supplier Part Number 4: 579-PIC10F322-I/MC; I/O Pins: 3; Memory Type: Flash; Packing: TUBE; RoHS: TRUE; Mounting Technology: Surface Mount; ComponentLink1Description: Manufacturer URL; ComponentLink1URL: http://www.microchip.com/; ComponentLink2Description: Datasheet; ComponentLink2URL: http://ww1.microchip.com/downloads/en/DeviceDoc/41585A.pdf; ComponentLink3Description: Package Specification; ComponentLink3URL: http://www.microchip.com/stellent/groups/techpub_sg/documents/packagingspec/en012702.pdf; ComponentLink4Description: URL Link1; ComponentLink4URL: Product URL:http://www.microchip.com/datasheet/PIC10F322
footprint MCHP-DFN-MC8_V (SON, 8-Leads, Body 3x2mm, Pitch 0.5mm, Thermal Pad 1.45x1.75mm)
pins: 1 NC, 2 VDD (power) "Positive supply.", 3 RA2 (io), 4 RA1/ICSPCLK (io), 5 RA0/ICSPDAT (io), 6 NC, 7 VSS (power) "Ground reference.", 8 RA3/~{MCLR}/VPP (in), 9 EP

## PIC10F322-I/OT
designator U?
High-Performance, Flash Microcontroller, 16 MHz, 3 I/O, -40 to 85 degC, 6-pin SOT-23 (OT6), Bag; Manufacturer: Microchip; PartNumber: PIC10F322-I/OT; # of A/D Channels: 3; Digital Communication: 0 -UART; Internal Oscillator: 16 MHz, 31 kHz; Max. CPU Speed MHz: 16; Operation Voltage Range: 2.3V - 5.5V; Program Memory KBytes: 0.875; Program Memory KWords: 0.5; RAM: 64; Timers: 2 - 8-bit; DatasheetVersion: Rev. A; PackageVersion: C04-028B, 12/2012; PackageReference: SOT-23-OT6; PackageDescription: 6-Lead Plastic Small Outline Transistor, 2.9 x 1.55 mm Body, 0.95 mm Pitch; Supplier 1: Digi-Key; Supplier Part Number 1: PIC10F322-I/OT-ND; Supplier 2: Farnell; Supplier Part Number 2: 2074918; Supplier 3: Newark; Supplier Part Number 3: 41T4340; Supplier 4: Mouser; Supplier Part Number 4: 579-PIC10F322-I/OT; I/O Pins: 3; Memory Type: Flash; Packing: BAG; RoHS: TRUE; Mounting Technology: Surface Mount; ComponentLink1Description: Manufacturer URL; ComponentLink1URL: http://www.microchip.com/; ComponentLink2Description: Datasheet; ComponentLink2URL: http://ww1.microchip.com/downloads/en/DeviceDoc/41585A.pdf; ComponentLink3Description: Package Specification; ComponentLink3URL: http://www.microchip.com/stellent/groups/techpub_sg/documents/packagingspec/en012702.pdf; ComponentLink4Description: URL Link1; ComponentLink4URL: Product URL:http://www.microchip.com/datasheet/PIC10F322
footprint MCHP-SOT-23-OT6_N (SOT23, 6-Leads, Body 2.9x1.55mm, Pitch 0.95mm, IPC Medium Density)
footprint MCHP-SOT-23-OT6_L (SOT23, 6-Leads, Body 2.9x1.55mm, Pitch 0.95mm, IPC High Density)
footprint MCHP-SOT-23-OT6_M (SOT23, 6-Leads, Body 2.9x1.55mm, Pitch 0.95mm, IPC Low Density)
pins: 1 RA0/ICSPDAT (io), 2 VSS (power) "Ground reference.", 3 RA1/ICSPCLK (io), 4 RA2 (io), 5 VDD (power) "Positive supply.", 6 RA3/~{MCLR}/VPP (in)

## PIC10F322-I/P
designator U?
High-Performance, Flash Microcontroller, 16 MHz, 3 I/O, -40 to 85 degC, 8-pin PDIP (P8), Tube; Manufacturer: Microchip; PartNumber: PIC10F322-I/P; # of A/D Channels: 3; Digital Communication: 0 -UART; Internal Oscillator: 16 MHz, 31 kHz; Max. CPU Speed MHz: 16; Operation Voltage Range: 2.3V - 5.5V; Program Memory KBytes: 0.875; Program Memory KWords: 0.5; RAM: 64; Timers: 2 - 8-bit; DatasheetVersion: Rev. A; PackageVersion: C04-018B, 12/2012; PackageReference: PDIP-P8; PackageDescription: 8-Lead Plastic Dual In-Line, Row Spacing 7.62 mm, 9.5 x 6.6 mm Body, 2.54 mm Pitch; Supplier 1: Digi-Key; Supplier Part Number 1: PIC10F322-I/P-ND; Supplier 2: Farnell; Supplier Part Number 2: 2074919; Supplier 3: Newark; Supplier Part Number 3: 41T4341; Supplier 4: Mouser; Supplier Part Number 4: 579-PIC10F322-I/P; I/O Pins: 3; Memory Type: Flash; Packing: TUBE; RoHS: TRUE; Mounting Technology: Through Hole; ComponentLink1Description: Manufacturer URL; ComponentLink1URL: http://www.microchip.com/; ComponentLink2Description: Datasheet; ComponentLink2URL: http://ww1.microchip.com/downloads/en/DeviceDoc/41585A.pdf; ComponentLink3Description: Package Specification; ComponentLink3URL: http://www.microchip.com/stellent/groups/techpub_sg/documents/packagingspec/en012702.pdf; ComponentLink4Description: URL Link1; ComponentLink4URL: Product URL:http://www.microchip.com/datasheet/PIC10F322
footprint MCHP-PDIP-P8 (PDIP, 8-Leads, Body 9.5x6.604mm, Pitch 2.54mm)
pins: 1 NC, 2 VDD (power) "Positive supply.", 3 RA2 (io), 4 RA1/ICSPCLK (io), 5 RA0/ICSPDAT (io), 6 NC, 7 VSS (power) "Ground reference.", 8 RA3/~{MCLR}/VPP (in)

## PIC10F322T-E/OT
designator U?
High-Performance, Flash Microcontroller, 16 MHz, 3 I/O, -40 to 125 degC, 6-pin SOT-23 (OT6), Tape and Reel; Manufacturer: Microchip; PartNumber: PIC10F322T-E/OT; # of A/D Channels: 3; Digital Communication: 0 -UART; Internal Oscillator: 16 MHz, 31 kHz; Max. CPU Speed MHz: 16; Operation Voltage Range: 2.3V - 5.5V; Packing: T/R; Program Memory KBytes: 0.875; Program Memory KWords: 0.5; RAM: 64; Timers: 2 - 8-bit; DatasheetVersion: Rev. A; PackageVersion: C04-028B, 12/2012; PackageReference: SOT-23-OT6; PackageDescription: 6-Lead Plastic Small Outline Transistor, 2.9 x 1.55 mm Body, 0.95 mm Pitch; I/O Pins: 3; Memory Type: Flash; RoHS: TRUE; Mounting Technology: Surface Mount; ComponentLink1Description: Manufacturer URL; ComponentLink1URL: http://www.microchip.com/; ComponentLink2Description: Datasheet; ComponentLink2URL: http://ww1.microchip.com/downloads/en/DeviceDoc/41585A.pdf; ComponentLink3Description: Package Specification; ComponentLink3URL: http://www.microchip.com/stellent/groups/techpub_sg/documents/packagingspec/en012702.pdf; ComponentLink4Description: URL Link1; ComponentLink4URL: Product URL:http://www.microchip.com/datasheet/PIC10F322
footprint MCHP-SOT-23-OT6_N (SOT23, 6-Leads, Body 2.9x1.55mm, Pitch 0.95mm, IPC Medium Density)
footprint MCHP-SOT-23-OT6_L (SOT23, 6-Leads, Body 2.9x1.55mm, Pitch 0.95mm, IPC High Density)
footprint MCHP-SOT-23-OT6_M (SOT23, 6-Leads, Body 2.9x1.55mm, Pitch 0.95mm, IPC Low Density)
pins: 1 RA0/ICSPDAT (io), 2 VSS (power) "Ground reference.", 3 RA1/ICSPCLK (io), 4 RA2 (io), 5 VDD (power) "Positive supply.", 6 RA3/~{MCLR}/VPP (in)

## PIC10F322T-I/MC
designator U?
High-Performance, Flash Microcontroller, 16 MHz, 3 I/O, -40 to 85 degC, 8-pin DFN (MC8), Tape and Reel; Manufacturer: Microchip; PartNumber: PIC10F322T-I/MC; # of A/D Channels: 3; Digital Communication: 0 -UART; Internal Oscillator: 16 MHz, 31 kHz; Max. CPU Speed MHz: 16; Operation Voltage Range: 2.3V - 5.5V; Packing: T/R; Program Memory KBytes: 0.875; Program Memory KWords: 0.5; RAM: 64; Timers: 2 - 8-bit; DatasheetVersion: Rev. A; PackageVersion: C04-123C, 12/2012; PackageReference: DFN-MC8; PackageDescription: 8-Lead Plastic Dual Flat, 2 x 3 mm Body, 0.5 mm Pitch; Supplier 1: Digi-Key; Supplier Part Number 1: PIC10F322T-I/MC-ND; Supplier 2: Farnell; Supplier Part Number 2: 2074920RL; Supplier 3: Farnell; Supplier Part Number 3: 2074920; Supplier 4: Newark; Supplier Part Number 4: 65T4796; Supplier 5: Mouser; Supplier Part Number 5: 579-PIC10F322T-I/MC; I/O Pins: 3; Memory Type: Flash; RoHS: TRUE; Mounting Technology: Surface Mount; ComponentLink1Description: Manufacturer URL; ComponentLink1URL: http://www.microchip.com/; ComponentLink2Description: Datasheet; ComponentLink2URL: http://ww1.microchip.com/downloads/en/DeviceDoc/41585A.pdf; ComponentLink3Description: Package Specification; ComponentLink3URL: http://www.microchip.com/stellent/groups/techpub_sg/documents/packagingspec/en012702.pdf; ComponentLink4Description: URL Link1; ComponentLink4URL: Product URL:http://www.microchip.com/datasheet/PIC10F322
footprint MCHP-DFN-MC8_V (SON, 8-Leads, Body 3x2mm, Pitch 0.5mm, Thermal Pad 1.45x1.75mm)
pins: 1 NC, 2 VDD (power) "Positive supply.", 3 RA2 (io), 4 RA1/ICSPCLK (io), 5 RA0/ICSPDAT (io), 6 NC, 7 VSS (power) "Ground reference.", 8 RA3/~{MCLR}/VPP (in), 9 EP

## PIC10F322T-I/OT
designator U?
High-Performance, Flash Microcontroller, 16 MHz, 3 I/O, -40 to 85 degC, 6-pin SOT-23 (OT6), Tape and Reel; Manufacturer: Microchip; PartNumber: PIC10F322T-I/OT; # of A/D Channels: 3; Digital Communication: 0 -UART; Internal Oscillator: 16 MHz, 31 kHz; Max. CPU Speed MHz: 16; Operation Voltage Range: 2.3V - 5.5V; Packing: T/R; Program Memory KBytes: 0.875; Program Memory KWords: 0.5; RAM: 64; Timers: 2 - 8-bit; DatasheetVersion: Rev. A; PackageVersion: C04-028B, 12/2012; PackageReference: SOT-23-OT6; PackageDescription: 6-Lead Plastic Small Outline Transistor, 2.9 x 1.55 mm Body, 0.95 mm Pitch; Supplier 1: Digi-Key; Supplier Part Number 1: PIC10F322T-I/OTTR-ND; Supplier 2: Digi-Key; Supplier Part Number 2: PIC10F322T-I/OTCT-ND; Supplier 3: Digi-Key; Supplier Part Number 3: PIC10F322T-I/OTDKR-ND; Supplier 4: Farnell; Supplier Part Number 4: 2079389; Supplier 5: Newark; Supplier Part Number 5: 65T4797; Supplier 6: Mouser; Supplier Part Number 6: 579-PIC10F322T-I/OT; I/O Pins: 3; Memory Type: Flash; RoHS: TRUE; Mounting Technology: Surface Mount; ComponentLink1Description: Manufacturer URL; ComponentLink1URL: http://www.microchip.com/; ComponentLink2Description: Datasheet; ComponentLink2URL: http://ww1.microchip.com/downloads/en/DeviceDoc/41585A.pdf; ComponentLink3Description: Package Specification; ComponentLink3URL: http://www.microchip.com/stellent/groups/techpub_sg/documents/packagingspec/en012702.pdf; ComponentLink4Description: URL Link1; ComponentLink4URL: Product URL:http://www.microchip.com/datasheet/PIC10F322
footprint MCHP-SOT-23-OT6_N (SOT23, 6-Leads, Body 2.9x1.55mm, Pitch 0.95mm, IPC Medium Density)
footprint MCHP-SOT-23-OT6_L (SOT23, 6-Leads, Body 2.9x1.55mm, Pitch 0.95mm, IPC High Density)
footprint MCHP-SOT-23-OT6_M (SOT23, 6-Leads, Body 2.9x1.55mm, Pitch 0.95mm, IPC Low Density)
pins: 1 RA0/ICSPDAT (io), 2 VSS (power) "Ground reference.", 3 RA1/ICSPCLK (io), 4 RA2 (io), 5 VDD (power) "Positive supply.", 6 RA3/~{MCLR}/VPP (in)

## PIC10LF320-E/MC
designator U?
High-Performance, Flash Microcontroller, 16 MHz, 3 I/O, -40 to 125 degC, 8-pin DFN (MC8), Tube; Manufacturer: Microchip; PartNumber: PIC10LF320-E/MC; # of A/D Channels: 3; Digital Communication: 0 -UART; Internal Oscillator: 16 MHz, 31 kHz; Max. CPU Speed MHz: 16; Operation Voltage Range: 1.8V - 3.6V; Program Memory KBytes: 0.4375; Program Memory KWords: 0.25; RAM: 64; Timers: 2 - 8-bit; DatasheetVersion: Rev. A; PackageVersion: C04-123C, 12/2012; PackageReference: DFN-MC8; PackageDescription: 8-Lead Plastic Dual Flat, 2 x 3 mm Body, 0.5 mm Pitch; Supplier 1: Digi-Key; Supplier Part Number 1: PIC10LF320-E/MC-ND; Supplier 2: Mouser; Supplier Part Number 2: 579-PIC10LF320-E/MC; I/O Pins: 3; Memory Type: Flash; Packing: TUBE; Mounting Technology: Surface Mount; ComponentLink1Description: Manufacturer URL; ComponentLink1URL: http://www.microchip.com/; ComponentLink2Description: Datasheet; ComponentLink2URL: http://ww1.microchip.com/downloads/en/DeviceDoc/41585A.pdf; ComponentLink3Description: Package Specification; ComponentLink3URL: http://www.microchip.com/stellent/groups/techpub_sg/documents/packagingspec/en012702.pdf; ComponentLink4Description: URL Link1; ComponentLink4URL: Product URL:http://www.microchip.com/datasheet/PIC10F320
footprint MCHP-DFN-MC8_V (SON, 8-Leads, Body 3x2mm, Pitch 0.5mm, Thermal Pad 1.45x1.75mm)
pins: 1 NC, 2 VDD (power) "Positive supply.", 3 RA2 (io), 4 RA1/ICSPCLK (io), 5 RA0/ICSPDAT (io), 6 NC, 7 VSS (power) "Ground reference.", 8 RA3/~{MCLR}/VPP (in), 9 EP

## PIC10LF320-E/OT
designator U?
High-Performance, Flash Microcontroller, 16 MHz, 3 I/O, -40 to 125 degC, 6-pin SOT-23 (OT6), Bag; Manufacturer: Microchip; PartNumber: PIC10LF320-E/OT; # of A/D Channels: 3; Digital Communication: 0 -UART; Internal Oscillator: 16 MHz, 31 kHz; Max. CPU Speed MHz: 16; Operation Voltage Range: 1.8V - 3.6V; Program Memory KBytes: 0.4375; Program Memory KWords: 0.25; RAM: 64; Timers: 2 - 8-bit; DatasheetVersion: Rev. A; PackageVersion: C04-028B, 12/2012; PackageReference: SOT-23-OT6; PackageDescription: 6-Lead Plastic Small Outline Transistor, 2.9 x 1.55 mm Body, 0.95 mm Pitch; Supplier 1: Digi-Key; Supplier Part Number 1: PIC10LF320-E/OT-ND; Supplier 2: Mouser; Supplier Part Number 2: 579-PIC10LF320-E/OT; I/O Pins: 3; Memory Type: Flash; Packing: BAG; Mounting Technology: Surface Mount; ComponentLink1Description: Manufacturer URL; ComponentLink1URL: http://www.microchip.com/; ComponentLink2Description: Datasheet; ComponentLink2URL: http://ww1.microchip.com/downloads/en/DeviceDoc/41585A.pdf; ComponentLink3Description: Package Specification; ComponentLink3URL: http://www.microchip.com/stellent/groups/techpub_sg/documents/packagingspec/en012702.pdf; ComponentLink4Description: URL Link1; ComponentLink4URL: Product URL:http://www.microchip.com/datasheet/PIC10F320
footprint MCHP-SOT-23-OT6_N (SOT23, 6-Leads, Body 2.9x1.55mm, Pitch 0.95mm, IPC Medium Density)
footprint MCHP-SOT-23-OT6_L (SOT23, 6-Leads, Body 2.9x1.55mm, Pitch 0.95mm, IPC High Density)
footprint MCHP-SOT-23-OT6_M (SOT23, 6-Leads, Body 2.9x1.55mm, Pitch 0.95mm, IPC Low Density)
pins: 1 RA0/ICSPDAT (io), 2 VSS (power) "Ground reference.", 3 RA1/ICSPCLK (io), 4 RA2 (io), 5 VDD (power) "Positive supply.", 6 RA3/~{MCLR}/VPP (in)